# Altium integrated library CX3225SB12000D0GZJC1.IntLib: 1 symbol
Pins are listed as number, name and electrical type; pins without a type are passive.

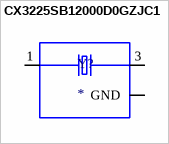
[diagram p0: symbol CX3225SB12000D0GZJC1]

## CX3225SB12000D0GZJC1
designator Y?
Crystal 25.0000mhz 8pf Smd; MP: CX3225SB12000D0GZJC1; Package: None; Price: None; Value: *; Availability: Unavailable
footprint OSCCC320X250X60N
pins: 1, 2 GND (power), 3, 4 GND (power)